# Altium schematic symbol library FIBOCOM.SchLib: 1 symbol
Pins are listed as number, name and electrical type; pins without a type are passive.

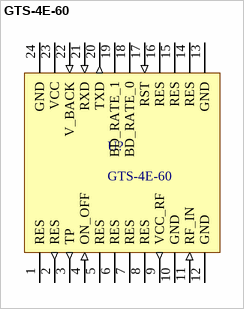
[diagram p0: symbol GTS-4E-60]

## GTS-4E-60
designator U?
FIBOCOM GTS-4E-60, GPS Module
pins: 1 RES, 2 RES (out), 3 TP (out), 4 ON_OFF (in), 5 RES, 6 RES, 7 RES, 8 RES, 9 VCC_RF (out), 10 GND (power), 11 RF_IN (in), 12 GND (power), 13 GND (power), 14 RES, 15 RES, 16 RES, 17 RST (in), 18 BD_RATE_0, 19 BD_RATE_1, 20 TXD (out), 21 RXD (in), 22 V_BACK (in), 23 VCC (power), 24 GND (power)